# EAGLE library part NC7WZ07 (library isystems)
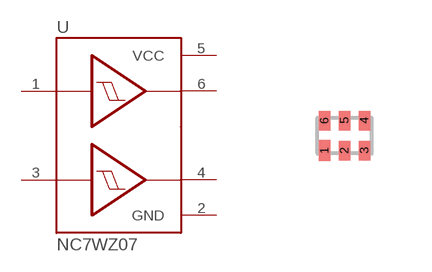
[diagram p20: symbol with the pads of MAC06A; footprint MAC06A]

Designator prefix U

## NC7WZ07L6X  [MAC06A]
1  I  in
2  GND  pwr
3  I1  in
4  O1  out
5  VCC  pwr
6  O  out

## Footprint MAC06A (pad centres in mm)
6-Lead MicroPak, 1.0mm Wide Source: http://www.fairchildsemi.com/ds/NC/NC7SZ14.pdf
smd 0.3 x 0.52: 1 -0.5,-0.375
smd 0.3 x 0.49: 2 0,-0.375; 3 0.5,-0.375; 4 0.5,0.375; 5 0,0.375; 6 -0.5,0.375